# EAGLE library part CS4398 (library Misaka-IC)
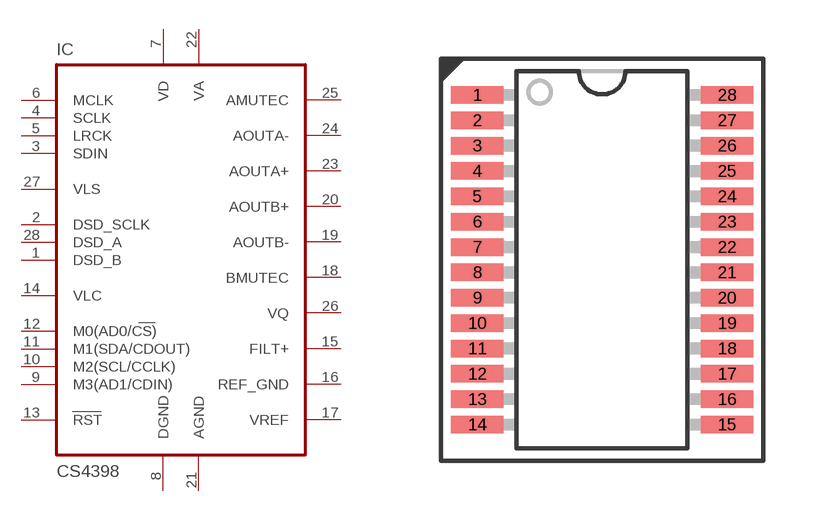
[diagram p19: symbol with the pads of TSSOP28; footprint TSSOP28]

Designator prefix IC

## CS4398  [TSSOP28]
1  DSD_B
2  DSD_SCLK
3  SDIN  in
4  SCLK
5  LRCK
6  MCLK  in
7  VD  pwr
8  DGND  pwr
9  M3(AD1/CDIN)  in
10  M2(SCL/CCLK)  in
11  M1(SDA/CDOUT)  in
12  M0(AD0/CS)  in
13  RST  in
14  VLC  pwr
15  FILT+  pas
16  REF_GND  pas
17  VREF  pas
18  BMUTEC  pas
19  AOUTB-  pas
20  AOUTB+  pas
21  AGND  pwr
22  VA  pwr
23  AOUTA+  pas
24  AOUTA-  pas
25  AMUTEC  pas
26  VQ  pas
27  VLS  pwr
28  DSD_A

## Footprint TSSOP28 (pad centres in mm)
smd 1.35 x 0.45: 1 -3.2,4.225; 2 -3.2,3.575; 3 -3.2,2.925; 4 -3.2,2.275; 5 -3.2,1.625; 6 -3.2,0.975; 7 -3.2,0.325; 8 -3.2,-0.325; 9 -3.2,-0.975; 10 -3.2,-1.625; 11 -3.2,-2.275; 12 -3.2,-2.925; 13 -3.2,-3.575; 14 -3.2,-4.225; 15 3.2,-4.225; 16 3.2,-3.575; 17 3.2,-2.925; 18 3.2,-2.275; 19 3.2,-1.625; 20 3.2,-0.975; 21 3.2,-0.325; 22 3.2,0.325; 23 3.2,0.975; 24 3.2,1.625; 25 3.2,2.275; 26 3.2,2.925; 27 3.2,3.575; 28 3.2,4.225